# Altium schematic symbol library RPI_CM4.SchLib: 1 symbol
Pins are listed as number, name and electrical type; pins without a type are passive.

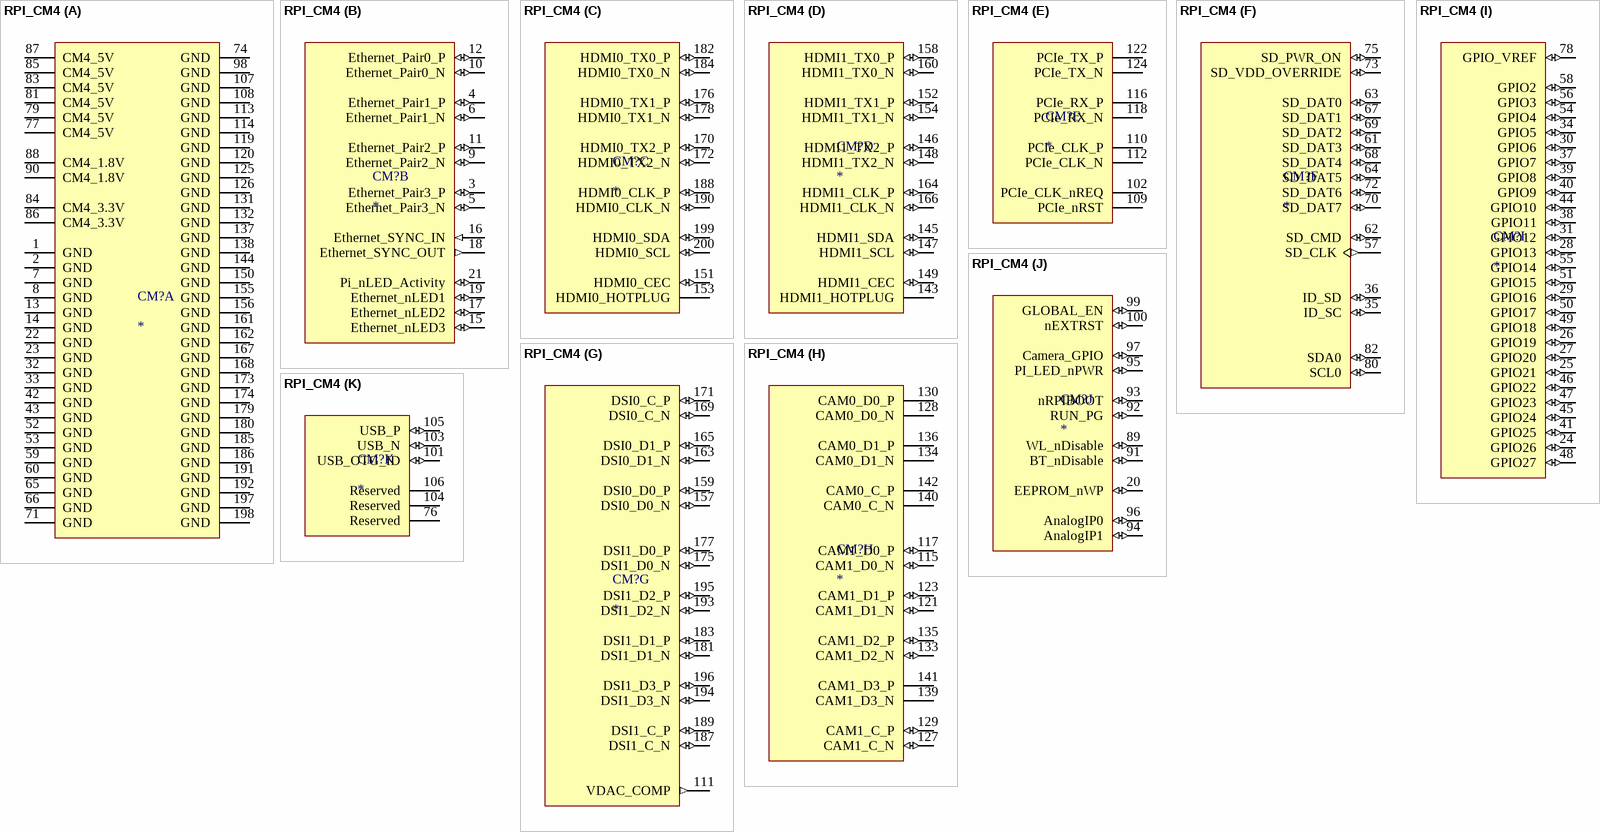
[diagram p0: symbol RPI_CM4]

## RPI_CM4
designator CM?
Raspberry PI Compute Module 4
footprint RPI_CM_4 (Raspberry PI Compute Module 4)
part A pins: 1 GND (power) "Ground (0V)", 2 GND (power) "Ground (0V)", 7 GND (power) "Ground (0V)", 8 GND (power) "Ground (0V)", 13 GND (power) "Ground (0V)", 14 GND (power) "Ground (0V)", 22 GND (power) "Ground (0V)", 23 GND (power) "Ground (0V)", 32 GND (power) "Ground (0V)", 33 GND (power) "Ground (0V)", 42 GND (power) "Ground (0V)", 43 GND (power) "Ground (0V)", 52 GND (power) "Ground (0V)", 53 GND (power) "Ground (0V)", 59 GND (power) "Ground (0V)", 60 GND (power) "Ground (0V)", 65 GND (power) "Ground (0V)", 66 GND (power) "Ground (0V)", 71 GND (power) "Ground (0V)", 74 GND (power) "Ground (0V)", 77 CM4_5V (power) "4.75V-5.25V. Main power input", 79 CM4_5V (power) "4.75V-5.25V. Main power input", 81 CM4_5V (power) "4.75V-5.25V. Main power input", 83 CM4_5V (power) "4.75V-5.25V. Main power input", 84 CM4_3.3V (power) "3.3V ± 2.5%. Power Output max 300mA per pin for a total of 600mA. T down during power-off or GLOBAL_EN being set lowhis will be powered", 85 CM4_5V (power) "4.75V-5.25V. Main power input", 86 CM4_3.3V (power) "3.3V ± 2.5%. Power Output max 300mA per pin for a total of 600mA. This will be powered down during power-off or GLOBAL_EN being set low", 87 CM4_5V (power) "4.75V-5.25V. Main power input", 88 CM4_1.8V (power) "1.8V ± 2.5%. Power Output max 300mA per pin for a total of 600mA. This will be powered down during power-off or GLOBAL_EN being set low", 90 CM4_1.8V (power) "1.8V ± 2.5%. Power Output max 300mA per pin for a total of 600mA. This will be powered down during power-off or GLOBAL_EN being set low", 98 GND (power) "Ground (0V)", 107 GND (power) "Ground (0V)", 108 GND (power) "Ground (0V)", 113 GND (power) "Ground (0V)", 114 GND (power) "Ground (0V)", 119 GND (power) "Ground (0V)", 120 GND (power) "Ground (0V)", 125 GND (power) "Ground (0V)", 126 GND (power) "Ground (0V)", 131 GND (power) "Ground (0V)", 132 GND (power) "Ground (0V)", 137 GND (power) "Ground (0V)", 138 GND (power) "Ground (0V)", 144 GND (power) "Ground (0V)", 150 GND (power) "Ground (0V)", 155 GND (power) "Ground (0V)", 156 GND (power) "Ground (0V)", 161 GND (power) "Ground (0V)", 162 GND (power) "Ground (0V)", 167 GND (power) "Ground (0V)", 168 GND (power) "Ground (0V)", 173 GND (power) "Ground (0V)", 174 GND (power) "Ground (0V)", 179 GND (power) "Ground (0V)", 180 GND (power) "Ground (0V)", 185 GND (power) "Ground (0V)", 186 GND (power) "Ground (0V)", 191 GND (power) "Ground (0V)", 192 GND (power) "Ground (0V)", 197 GND (power) "Ground (0V)", 198 GND (power) "Ground (0V)"
part B pins: 3 Ethernet_Pair3_P (io) "Ethernet pair 3 positive (connect to transformer or MagJack)", 4 Ethernet_Pair1_P (io) "Ethernet pair 1 positive (connect to transformer or MagJack)", 5 Ethernet_Pair3_N (io) "Ethernet pair 3 negative (connect to transformer or MagJack)", 6 Ethernet_Pair1_N (io) "Ethernet pair 1 negative (connect to transformer or MagJack)", 9 Ethernet_Pair2_N (io) "Ethernet pair 2 negative (connect to transformer or MagJack)", 10 Ethernet_Pair0_N (io) "Ethernet pair 0 negative (connect to transformer or MagJack)", 11 Ethernet_Pair2_P (io) "Ethernet pair 2 positive (connect to transformer or MagJack)", 12 Ethernet_Pair0_P (io) "Ethernet pair 0 positive (connect to transformer or MagJack)", 15 Ethernet_nLED3 (io) "Active-low Ethernet activity indicator (3.3V signal): typically a green LED is connected to this pin. IOL = 8mA @ VOL < 0.4V", 16 Ethernet_SYNC_IN (in) "IEEE1588 SYNC Input pin (1.8V signal: IOL = 8mA @ VOL < 0.4V)", 17 Ethernet_nLED2 (io) "Active-low Ethernet speed indicator (3.3V signal): typically a yellow LED is connected to this pin. A low state indicates the 1Gbit or 100Mbit link: IOL = 8mA @ VOL < 0.4V", 18 Ethernet_SYNC_OUT (out) "IEEE1588 SYNC Output pin (1.8V signal: IOL = 8mA @ VOL < 0.4V)", 19 Ethernet_nLED1 (io) "Active-low Ethernet speed indicator (3.3V signal): typically a yellow LED is connected to this pin. A low state indicates the 1Gbit or 10Mbit link: IOL = 8mA @ VOL < 0.4V", 21 Pi_nLED_Activity (io) "Active-low Pi activity LED. 20mA Max 5V tolerant (VOL < 0.4V). (this is the signal that drives the green LED on the Raspberry Pi 4 Model B)"
part C pins: 151 HDMI0_CEC (io) "Input HDMI0 CEC. Internally pulled up with a 27kΩ. 5V tolerant (It can be connected directly to a HDMI connector; a small amount of ESD protection is provided on the CM4 by an on-board HDMI05-CL02F3)", 153 HDMI0_HOTPLUG "Input HDMI0 hotplug. Internally pulled down 100kΩ. 5V tolerant. (It can be connected directly to a HDMI connector; a small amount of ESD protection is provided on the CM4 by an on-board HDMI05-CL02F3)", 170 HDMI0_TX2_P (io) "Output HDMI0 TX2 positive", 172 HDMI0_TX2_N (io) "Output HDMI0 TX2 negative", 176 HDMI0_TX1_P (io) "Output HDMI0 TX1 positive", 178 HDMI0_TX1_N (io) "Output HDMI0 TX1 negative", 182 HDMI0_TX0_P (io) "Output HDMI0 TX0 positive", 184 HDMI0_TX0_N (io) "Output HDMI0 TX0 negative", 188 HDMI0_CLK_P (io) "Output HDMI0 clock positive", 190 HDMI0_CLK_N (io) "Output HDMI0 clock negative", 199 HDMI0_SDA (io) "Bidirectional HDMI0 SDA. Internally pulled up with a 1.8kΩ. 5V tolerant. (It can be connected directly to a HDMI connector; a small amount of ESD protection the CM4 by an on-board HDMI05-CL02F3) is provided on", 200 HDMI0_SCL (io) "Bidirectional HDMI0 SCL. Internally pulled up with a 1.8kΩ. 5V tolerant. (It can be connected directly to a HDMI connector; a small amount of ESD protection is provided on the CM4 by an on-board HDMI05-CL02F3)"
part D pins: 143 HDMI1_HOTPLUG "Input HDMI1 hotplug. Internally pulled down with a 100kΩ. 5V tolerant. (It can be connected directly to a HDMI connector; a small amount of ESD protection is provided onthe CM4 by an on-board HDMI05-CL02F3)", 145 HDMI1_SDA (io) "Bidirectional HDMI1 SDA. Internally pulled up with a 1.8kΩ. 5V tolerant. (It can be connected directly to a HDMI connector; a small amount of ESD protection is provided on the CM4 by an on-board HDMI05-CL02F3)", 146 HDMI1_TX2_P (io) "Output HDMI1 TX2 positive", 147 HDMI1_SCL (io) "Bidirectional HDMI1 SCL. Internally pulled up with a 1.8kΩ. 5V tolerant. (It can be connected directly to a HDMI connector; a small amount of ESD protection is provided on the CM4 by an on-board HDMI05-CL02F3)", 148 HDMI1_TX2_N (io) "Output HDMI1 TX2 negative", 149 HDMI1_CEC (io) "Input HDMI1 CEC. Internally pulled up with a 27kΩ. 5V tolerant. (It can be connected directly to a HDMI connector; a small amount of ESD protection is provided on the CM4 by an on-board HDMI05-CL02F3)", 152 HDMI1_TX1_P (io) "Output HDMI1 TX1 positive", 154 HDMI1_TX1_N (io) "Output HDMI1 TX1 negative", 158 HDMI1_TX0_P (io) "Output HDMI1 TX0 positive", 160 HDMI1_TX0_N (io) "Output HDMI1 TX0 negative", 164 HDMI1_CLK_P (io) "Output HDMI1 clock positive", 166 HDMI1_CLK_N (io) "Output HDMI1 clock negative"
part E pins: 102 PCIe_CLK_nREQ "Input (3.3V signal) PCIe clock request pin (low to request PCI clock). Internally pulled up", 109 PCIe_nRST "Output (+3.3V signal) PCIe reset active-low", 110 PCIe_CLK_P "PCIe clock Out positive (100MHz) NB AC coupling capacitor included on CM4", 112 PCIe_CLK_N "PCIe clock Out negative (100MHz) NB AC coupling capacitor included on CM4", 116 PCIe_RX_P "Input PCIe GEN 2 RX positive NB external AC coupling capacitor required", 118 PCIe_RX_N "Input PCIe GEN 2 RX negative NB external AC coupling capacitor required", 122 PCIe_TX_P "Output PCIe GEN 2 TX positive NB AC coupling capacitor included on CM4", 124 PCIe_TX_N "Output PCIe GEN 2 TX positive NB AC coupling capacitor included on CM4"
part F pins: 35 ID_SC (io) ""(BCM2711 GPIO 1) GPIO: typically a 3.3V signal", 36 ID_SD (io) ""BCM2711 GPIO 0) GPIO: typically a 3.3V signal", 57 SD_CLK (out) "SD card clock signal (only available on CM4Lite)", 61 SD_DAT3 (io) "SD card/eMMC Data3 signal (only available on CM4Lite)", 62 SD_CMD (io) "SD card/eMMC Command signal (only available on CM4Lite)", 63 SD_DAT0 (io) "SD card/eMMC Data0 signal (only available on CM4Lite)", 64 SD_DAT5 (io) "SD card/eMMC Data5 signal (only available on CM4Lite)", 67 SD_DAT1 (io) "SD card/eMMC Data1 signal (only available on CM4Lite)", 68 SD_DAT4 (io) "SD card/eMMC Data4 signal (only available on CM4Lite)", 69 SD_DAT2 (io) "SD card/eMMC Data2 signal (only available on CM4Lite)", 70 SD_DAT7 (io) "SD card/eMMC Data7 signal (only available on CM4Lite)", 72 SD_DAT6 (io) "SD card/eMMC Data6 signal (only available on CM4Lite)", 73 SD_VDD_OVERRIDE (io) ""Connect to CM4_3.3V to force SD card/eMMC interface to 1.8V signalling instead of 3.3V", 75 SD_PWR_ON (io) "Output to power-switch for the SD card. The CM4 sets this pin high (3.3V) to signal that power to the SD card should be turned on. If booting f pullup should also be fitted so the power-switch defaults to on. (only available on CM4Lite)rom the SD card is required then a", 80 SCL0 (io) "I2C clock pin (BCM2711 GPIO45): typically used for Camera and Display. Internal 1.8kΩ pull up to CM4_3.3V", 82 SDA0 (io) "I2C Data pin (BCM2711 GPIO44): typically used for Camera and  pull up to CM4_3.3V Display. Internal 1.8kΩ"
part G pins: 111 VDAC_COMP (out) "Video DAC output (TV OUT)", 157 DSI0_D0_N (io) "Output Display0 D0 negative", 159 DSI0_D0_P (io) "Output Display0 D0 positive", 163 DSI0_D1_N (io) "Output Display0 D1 negative", 165 DSI0_D1_P (io) "Output Display0 D1 positive", 169 DSI0_C_N (io) "Output Display0 clock negative", 171 DSI0_C_P (io) "Output Display0 clock positive", 175 DSI1_D0_N (io) "Output Display1 D0 negative", 177 DSI1_D0_P (io) "Output Display1 D0 positive", 181 DSI1_D1_N (io) "Output Display1 D1 negative", 183 DSI1_D1_P (io) "Output Display1 D1 positive", 187 DSI1_C_N (io) "Output Display1 clock negative", 189 DSI1_C_P (io) "Output Display1 clock positive", 193 DSI1_D2_N (io) "Output Display1 D2 negative", 194 DSI1_D3_N (io) "Output Display1 D3 negative", 195 DSI1_D2_P (io) "Output Display1 D2 positive", 196 DSI1_D3_P (io) "Output Display1 D3 positive"
part H pins: 115 CAM1_D0_N (io) "Input Camera1 D0 negative", 117 CAM1_D0_P (io) "Input Camera1 D0 positive", 121 CAM1_D1_N (io) "Input Camera1 D1 negative", 123 CAM1_D1_P (io) "Input Camera1 D1 positive", 127 CAM1_C_N (io) "Input Camera1 clock negative", 128 CAM0_D0_N "Input Camera0 D0 negative", 129 CAM1_C_P (io) "Input Camera1 clock positive", 130 CAM0_D0_P "Input Camera0 D0 positive", 133 CAM1_D2_N (io) "Input Camera1 D2 negative", 134 CAM0_D1_N "Input Camera0 D1 negative", 135 CAM1_D2_P (io) "Input Camera1 D2 positive", 136 CAM0_D1_P "Input Camera0 D1 positive", 139 CAM1_D3_N "Input Camera1 D3 negative", 140 CAM0_C_N "Input Camera0 clock negative", 141 CAM1_D3_P "Input Camera1 D3 positive", 142 CAM0_C_P "Input Camera0 clock positive"
part I pins: 24 GPIO26 (io) ""GPIO: typically a 3.3V signal", 25 GPIO21 (io) ""GPIO: typically a 3.3V signal", 26 GPIO19 (io) ""GPIO: typically a 3.3V signal", 27 GPIO20 (io) ""GPIO: typically a 3.3V signal", 28 GPIO13 (io) ""GPIO: typically a 3.3V signal", 29 GPIO16 (io) ""GPIO: typically a 3.3V signal", 30 GPIO6 (io) ""GPIO: typically a 3.3V signal", 31 GPIO12 (io) ""GPIO: typically a 3.3V signal", 34 GPIO5 (io) ""GPIO: typically a 3.3V signal", 37 GPIO7 (io) ""GPIO: typically a 3.3V signal", 38 GPIO11 (io) ""GPIO: typically a 3.3V signal", 39 GPIO8 (io) ""GPIO: typically a 3.3V signal", 40 GPIO9 (io) ""GPIO: typically a 3.3V signal", 41 GPIO25 (io) ""GPIO: typically a 3.3V signal", 44 GPIO10 (io) ""GPIO: typically a 3.3V signal", 45 GPIO24 (io) ""GPIO: typically a 3.3V signal", 46 GPIO22 (io) ""GPIO: typically a 3.3V signal", 47 GPIO23 (io) ""GPIO: typically a 3.3V signal", 48 GPIO27 (io) ""GPIO: typically a 3.3V signal", 49 GPIO18 (io) ""GPIO: typically a 3.3V signal", 50 GPIO17 (io) ""GPIO: typically a 3.3V signal", 51 GPIO15 (io) ""GPIO: typically a 3.3V signal", 54 GPIO4 (io) ""GPIO: typically a 3.3V signal", 55 GPIO14 (io) ""GPIO: typically a 3.3V signal", 56 GPIO3 (io) ""GPIO: typically a 3.3V signal", 58 GPIO2 (io) ""GPIO: typically a 3.3V signal", 78 GPIO_VREF (io) "Must be connected to CM4_3.3V (pins 84 and 86) for 3.3V GPIO or CM4_1.8V (pins 88 and 90) for 1.8V GPIO. This pin cannot be floating or connected to ground."
part J pins: 20 EEPROM_nWP (io) ""Leave floating NB internally pulled up to CM4_3.3V via 100kΩ (VIL < 0.8V)", 89 WL_nDisable (io) "Can be left floating; if driven low the wireless interface will be disabled. Internally pulled up via 1.8kΩ to CM4_3.3V", 91 BT_nDisable (io) "Can be left floating; if driven low the Bluetooth interface will be disabled. Internally pulled up via 1.8kΩ to CM4_3.3V", 92 RUN_PG (io) ""Bidirectional pin. Can be driven low (via a 220Ω resistor) to reset the CM4 CPU. As an output", 93 nRPIBOOT (io) "A low on this pin forces booting from an RPI server (e.g. PC or a Raspberry Pi); if not used leave floating. Internally pulled up via 10kΩ to +3.3V", 94 AnalogIP1 (io) "Analogue input of the MXL7704: typically connected to CC pin of Type C power connector", 95 PI_LED_nPWR (io) "Active-low output to drive Power On LED. This signal needs to be buffered.", 96 AnalogIP0 (io) "Analogue input of the MXL7704: typically connected to CC pin of Type C power connector", 97 Camera_GPIO (io) "Typically used to shut down the camera to reduce power. Reassigning this pin to another function isn’t recommended. CM4_3.3V signalling", 99 GLOBAL_EN (io) "Input. Drive low to power off CM4. Internally pulled up with a 100kΩ to +5V", 100 nEXTRST (io) "Output. Driven low during reset; Driven high (CM4_3.3V) once CM4 CPU has started to boot"
part K pins: 76 Reserved "Do not connect anything to this pin.", 101 USB_OTG_ID (io) "Input (3.3V signal) USB OTG Pin. Internally pulled up. When grounded the CM4 becomes a USB host but the correct OS driver also needs to be used", 103 USB_N (io) "USB D-", 104 Reserved "Do not connect anything to this pin.", 105 USB_P (io) "USB D+", 106 Reserved "Do not connect anything to this pin."